# EAGLE library part KYOCERA_ELCO_6232_16_POL_TOP (library Steckverbinder - THT & SMD)
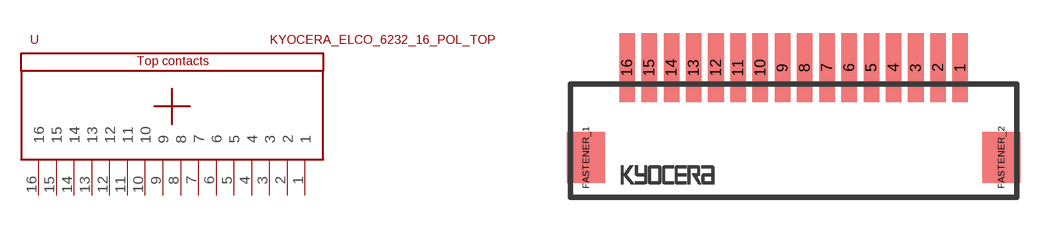
[diagram p0: symbol with the pads of ELCO_6232_16_POL_TOP_CONTACTS; footprint ELCO_6232_16_POL_TOP_CONTACTS]

Designator prefix -

## KYOCERA_ELCO_6232_16_POL_TOP  [ELCO_6232_16_POL_TOP_CONTACTS]
1  1
2  2
3  3
4  4
5  5
6  6
7  7
8  8
9  9
10  10
11  11
12  12
13  13
14  14
15  15
16  16

## Footprint ELCO_6232_16_POL_TOP_CONTACTS (pad centres in mm)
smd 0.7 x 3.1: 1 7.55,3.65; 2 6.55,3.65; 3 5.55,3.65; 4 4.55,3.65; 5 3.55,3.65; 6 2.55,3.65; 7 1.55,3.65; 8 0.55,3.65; 9 -0.45,3.65; 10 -1.45,3.65; 11 -2.45,3.65; 12 -3.45,3.65; 13 -4.45,3.65; 14 -5.45,3.65; 15 -6.45,3.65; 16 -7.45,3.65
smd 1.7 x 2.3: FASTENER_1 -9.3,-0.4; FASTENER_2 9.4,-0.4